# Altium footprint library L1008.PcbLib: 1 footprints
Each footprint in its own frame and in the unit in brackets; x right, y up, seen from the top. Pads: shape width x height; smd on the part's side, far side on the other; paste and mask are expansions set on the pad; w line width, h text height; cw(c..) or ccw(c..) is an arc to the next point about the centre after c.
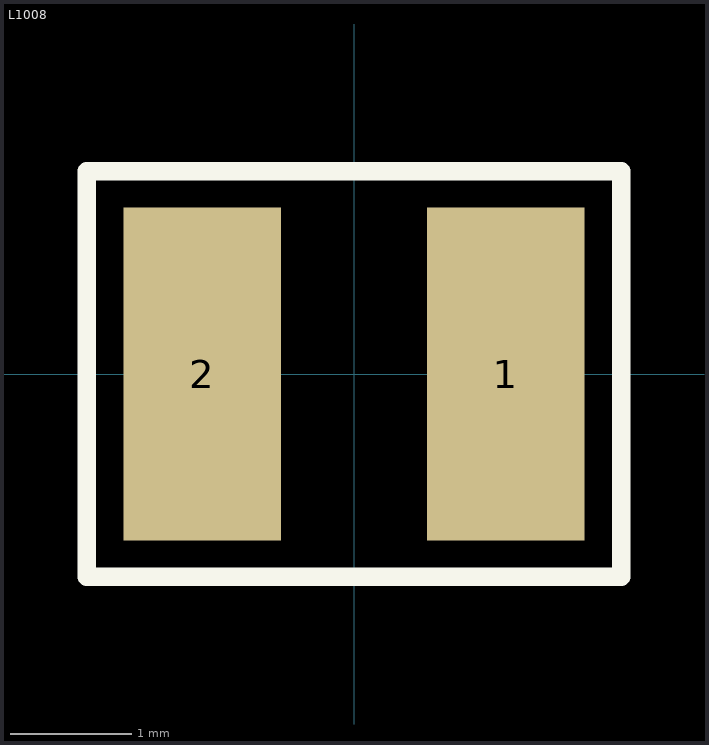
[diagram p0: the footprint, top view; thin cyan lines are the x and y axes]

## L1008 [mm]
pads (2):
  rect 1.3x2.74 smd: 1(1.25,0) 2(-1.25,0)
Top Overlay:
  lines w0.154: -2.2,-1.67 2.2,-1.67 2.2,1.67 -2.2,1.67 -2.2,-1.67